# EAGLE library part LTC2645 (library borkedlabs-dataconversion)
Quad 12/10/8 bit PWM to VOUT DACs with 10ppm/C Reference
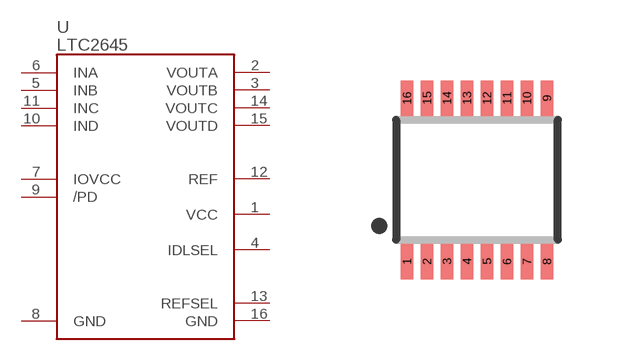
[diagram p0: symbol with the pads of MSOP16; footprint MSOP16]

Designator prefix U

## LTC2645  [MSOP16]
1  VCC
2  VOUTA
3  VOUTB
4  IDLSEL
5  INB
6  INA
7  IOVCC
8  GND
9  /PD
10  IND
11  INC
12  REF
13  REFSEL
14  VOUTC
15  VOUTD
16  GND

## Footprint MSOP16 (pad centres in mm)
MSOP8
smd 0.305 x 0.889: 1 -1.75,-2.045; 2 -1.25,-2.045; 3 -0.75,-2.045; 4 -0.25,-2.045; 5 0.25,-2.045; 6 0.75,-2.045; 7 1.25,-2.045; 8 1.75,-2.045; 9 1.75,2.045; 10 1.25,2.045; 11 0.75,2.045; 12 0.25,2.045; 13 -0.25,2.045; 14 -0.75,2.045; 15 -1.25,2.045; 16 -1.75,2.045